# Altium schematic symbol library Relay.SchLib: 1 symbol
Pins are listed as number, name and electrical type; pins without a type are passive.

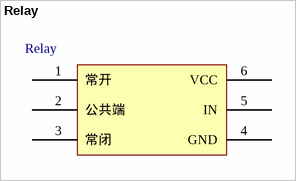
[diagram p0: symbol Relay]

## Relay
designator Relay  (value not drawn)
footprint Relay
pins: 1 常开, 2 公共端, 3 常闭, 4 GND, 5 IN, 6 VCC